# EAGLE library part IN-2 (library Nixie)
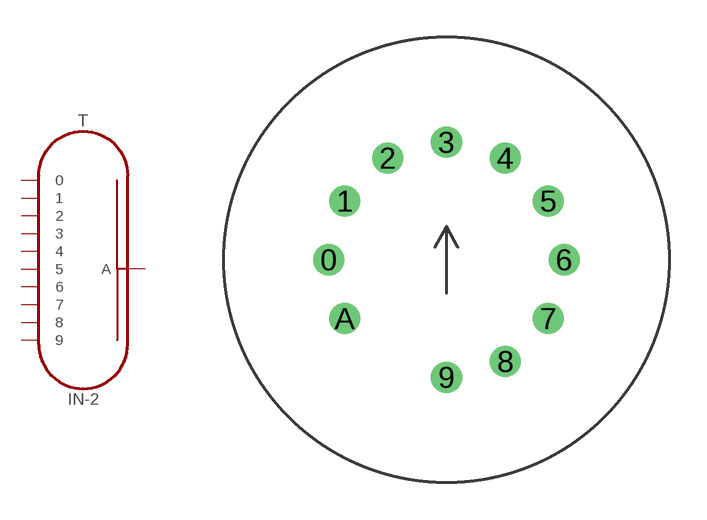
[diagram p3: symbol with the pads of IN-2; footprint IN-2]

Designator prefix T

## IN-2  [IN-2]
0  0
1  1
2  2
3  3
4  4
5  5
6  6
7  7
8  8
9  9
A  A

## Footprint IN-2 (pad centres in mm)
May be used with socket: 11-pin- Russian
drill 0.75: 0 -4.75,0; 1 -4.11,2.375; 2 -2.375,4.11; 3 0,4.75; 4 2.375,4.11; 5 4.11,2.375; 6 4.75,0; 7 4.11,-2.375; 8 2.375,-4.11; 9 0,-4.75; A -4.11,-2.375